# Altium schematic symbol library StandardDevices.SchLib: 31 symbols
Pins are listed as number, name and electrical type; pins without a type are passive.

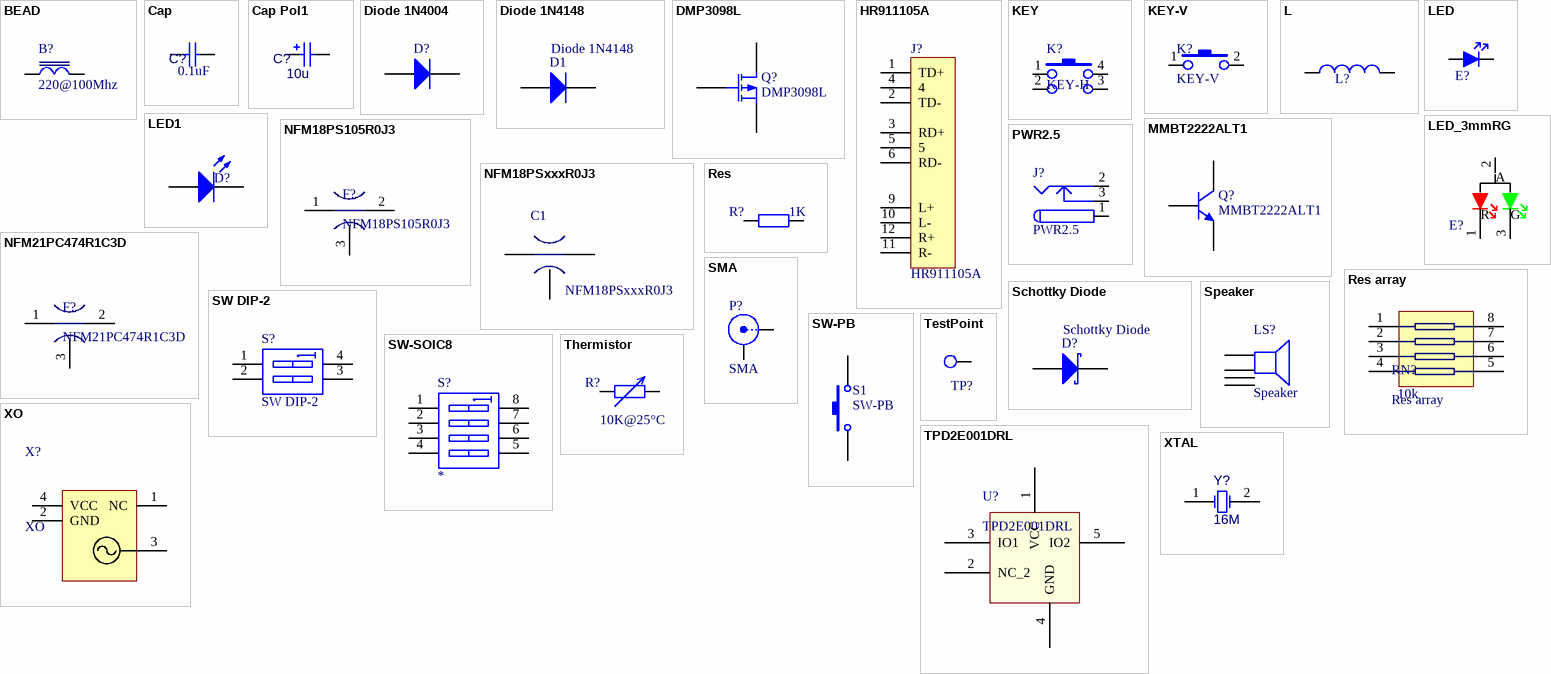
[diagram p0: symbols BEAD to XTAL]

## BEAD
designator B?, comment 220@100Mhz
footprint BEAD-0805
footprint BEAD-1206
footprint BEAD-RAD0.4
pins: 1, 2

## Cap
designator C?  value 0.1uF
Capacitor; Published: 8-Jun-2000; LatestRevisionDate: 17-Jul-2002; LatestRevisionNote: Re-released for DXP Platform.; Publisher: Altium Limited
footprint CAP-MLCC-0603
footprint CAP-MLCC-0805
footprint CAP-MLCC-0402-IPC High
footprint CAP-MLCC-0402
pins: 1, 2
2 alternate drawings of the same symbol

## Cap Pol1
designator C?  value 10u
Polarized Capacitor (Radial); Published: 8-Jun-2000; LatestRevisionDate: 17-Jul-2002; LatestRevisionNote: Re-released for DXP Platform.; Publisher: Altium Limited
footprint CAP-TAN-3216/CAPA
footprint CAP-TAN-3528/CAPB
footprint CAP-TAN-6032/CAPC
footprint CAP-TAN-7343/CAPD
pins: 1, 2
2 alternate drawings of the same symbol

## Diode 1N4004
designator D?  (value not drawn)
1 Amp General Purpose Rectifier; Revision 1: 11-Jul-2000: SIM Model Added.; Revision 2: 17-Jul-2002: Re-released for DXP Platform.; Package Information: Latest Revision: Aug-1999; Code - JEDEC: DO-204-AL; Published: 8-Jun-2000; Datasheet: Latest Revision: 1998; Package Reference: DO-41; Publisher: Altium Limited
footprint DIODE-0.4
footprint DO-124AB
footprint Diode-1206
pins: 1 A, 2 K

## Diode 1N4148
designator D1
High Conductance Fast Diode; Published: 8-Jun-2000; LatestRevisionDate: 17-Jul-2002; LatestRevisionNote: Re-released for DXP Platform.; DatasheetVersion: 1997; PackageReference: DO-35; Publisher: Altium Limited; Code_JEDEC: DO-204-AH; ComponentLink1Description: Manufacturer Link; ComponentLink1URL: http://www.fairchildsemi.com/; ComponentLink2Description: Datasheet; ComponentLink2URL: http://www.fairchildsemi.com/ds/1N%2F1N4148.pdf
footprint DIO7.1-3.9x1.9 (Diode, Axial; Body 3.8 x 1.9 mm (LxDia. max), Lead Dia. 0.53 mm (max))
simulation model 1N4148 (DIODE)
signal-integrity model 1N4148
footprint DO-35 (Diode, Axial; Body 3.8 x 1.9 mm (LxDia. max), Lead Dia. 0.53 mm (max))
footprint Diode-1206
pins: 1 A, 2 K

## DMP3098L
designator Q?
P-Channel Enhancement Mode Vertical DMOS FET; Published: 17-Dec-2003; DatasheetVersion: Jan-96; PackageVersion: 1996; PackageReference: SOT23; Publisher: Altium Limited; PackageDescription: SOT-23; 3 Leads; Body 3.1 x 2.5 mm, inc. leads (LxW max), Alternate Lead Configuration; ComponentLink1Description: Manufacturer Link; ComponentLink1URL: http://www.zetex.com/; ComponentLink2Description: Datasheet; ComponentLink2URL: www.zetex.com/3.0/pdf/ZVP3306F.pdf
footprint SOT23_L (SOT23, 3-Leads, Body 2.9x1.3mm, Pitch 0.95mm, Lead Span 2.3mm - Reverse Pinning, IPC High Density)
simulation model ZVP3306F (SUBCKT)
footprint SOT23_M (SOT23, 3-Leads, Body 2.9x1.3mm, Pitch 0.95mm, Lead Span 2.3mm - Reverse Pinning, IPC Low Density)
pins: 1 D, 2 S, 3 G

## HR911105A
designator J?
Hanrun
footprint HR911105A (HR911105A 带网络变压器及LED的一体化RJ45插座)
pins: 1 TD+, 2 TD-, 3 RD+, 4, 5, 6 RD-, 9 L+, 10 L-, 11 R-, 12 R+

## KEY
designator K?, comment KEY-H
footprint SW-PB1-BIG
footprint SW-PB1-SMALL
pins: 1, 2, 3, 4

## KEY-V
designator K?
footprint SW-PB3-VT
footprint SW-PB2-TS-3613
pins: 1, 2

## L
designator L?
Inductor; Published: 8-Jun-2000; Revision: July-2002: Re-released for DXP Platform.; Publisher: Altium Limited
signal-integrity model Inductor
footprint RES-0603
footprint RES-1206
footprint RES-0805
footprint RES-1210
footprint RES-1812
footprint RES-2010
footprint RES-2220
pins: 1, 2

## LED
designator E?  (value not drawn)
footprint LED-0805 (Footprint not found)
footprint LED-1206 (Footprint not found)
footprint LED-3MM/V
footprint LED-5MM/V
footprint LED-3MM/H
footprint LED-5MM/H
pins: A 1, K 2

## LED1
designator D?  (value not drawn)
Typical RED GaAs LED; Published: 8-Jun-2000; Revision: July-2002: Re-released for DXP Platform.; Publisher: Altium Limited
footprint LED-1 (Typical RED GaAs LED; 2 Leads)
pins: 1 A, 2 K

## LED_3mmRG
designator E?, comment Dual LED  (value not drawn)
3mm Dual LED in Red and Green
footprint LED_DUAL-3MM/CommonAnode (Common Anode 3mm LED in Red and Green)
pins: 1 Red, 2 A, 3 Green
text: R; G

## MMBT2222ALT1
designator Q?
General Purpose Transistor NPN Silicon; Published: 29-Sep-2000; LatestRevisionDate: 17-Jul-2002; LatestRevisionNote: Re-released for DXP Platform.; DatasheetVersion: 1996; PackageVersion: 1997; PackageReference: 318-08; Publisher: Altium Limited; PackageDescription: SOT-23; 3 Leads; Body 3.0 x 2.6 mm, inc. leads (LxW max); ComponentLink1Description: Manufacturer Link; ComponentLink1URL: http://www.onsemi.com/site/products/landing?taxonomyID=194; ComponentLink2Description: Datasheet; ComponentLink2URL: http://www.onsemi.com/pub/Collateral/MMBT2222LT1-D.PDF
footprint 318-08 (SOT-23; 3 Leads; Body 3.0 x 2.6 mm, inc. leads (LxW max))
simulation model MMBT2222ALT1 (NPN)
signal-integrity model MMBT2222ALT1
pins: 1 B, 2 E, 3 C

## NFM18PS105R0J3
designator F?
Murata 1.0uf Capacitor Type  Chip EMIFILr for 2A Current
footprint NFM18PS (NFM18ps package)
pins: 1 In, 2 OUT, 3 GND

## NFM18PSxxxR0J3
designator C1
Murata 1.0uf Capacitor Type  Chip EMIFILr for 2A Current; value: 470nf
footprint NFM18PS (NFM18ps package)
pins: 1 In, 2 OUT, 3 GND

## NFM21PC474R1C3D
designator F?
Murata Capacitor Type  Chip EMIFILr for Large Current; Manufactor: Murata
pins: 1 In, 2 OUT, 3 GND

## PWR2.5
designator J?
Low Voltage Power Supply Connector; Published: 17-Dec-2003; DatasheetDocument: 09-May-2002; Publisher: Altium Limited; ComponentLink1Description: Manufacturer Link; ComponentLink1URL: http://domino.kycon.com/internet/Products.html
footprint POWER_BIG; pin to pad 1A>1 1B>1 2A>2 2B>2 3A>3 3B>3
signal-integrity model Connector
pins: 1 (power), 1A (power), 1B (power), 2 (power), 2A (power), 2B (power), 3 (power), 3A (power), 3B (power)

## Res
designator R?  value 1K
Semiconductor Resistor; Published: 8-Jun-2000; Revision: July-2002: Re-released for DXP Platform.; Publisher: Altium Limited
signal-integrity model Res Semi
footprint RES-0603
footprint RES-0805
footprint RES-0402
footprint RES-1210
footprint RES-1812
footprint RES-0402-IPC High
pins: 1, 2
1 alternate drawing of the same symbol

## Res array
designator RN?  value 10k
Res4 array
footprint 742-CTS-RN-8PIN-SM
pins: 1 (power), 2 (power), 3 (power), 4 (power), 5 (power), 6 (power), 7 (power), 8 (power)

## Schottky Diode
designator D?
footprint DIO7.1-3.9x1.9 (Diode, Axial; Body 3.8 x 1.9 mm (LxDia. max), Lead Dia. 0.53 mm (max))
simulation model 1N4148 (DIODE)
signal-integrity model 1N4148
footprint DO-35 (Diode, Axial; Body 3.8 x 1.9 mm (LxDia. max), Lead Dia. 0.53 mm (max))
footprint Diode-1206
footprint PowerMITE (POWERMITE package for Diodes by ON Semi)
pins: 1 A, 2 K

## SMA
designator P?
SMA Straight Connector; LatestRevisionDate: 17-Jul-2002; LatestRevisionNote: Re-released for DXP Platform.; Publisher: Altium Limited
signal-integrity model Connector
footprint MCX5.08-H5 (Connector; RF Coaxial, MCX, Thru-Hole; 5 Position; Right Angle)
pins: 1 X, 2 Y

## Speaker
designator LS?
Loudspeaker; Published: 24-Mar-1999; LatestRevisionDate: 17-Jul-2002; LatestRevisionNote: Re-released for DXP Platform.; PackageReference: PIN2; Publisher: Altium Limited
footprint HDR1X4 (Connector; Header; 4 Position)
pins: 1, 2, 3, 4

## SW DIP-2
designator S?
DIP Switch, 2 Position, SPST; Published: 24-Mar-1999; LatestRevisionDate: 17-Jul-2002; LatestRevisionNote: Re-released for DXP Platform.; PackageReference: DIP-4; Publisher: Altium Limited
simulation model dpsw2 (Spice Subcircuit)
footprint SWITCH-1.27mmpitch-2channel (SOIC, 8-Leads, Body 6.3x4.5mm (max), Pitch 1.27mm, IPC Medium Density)
pins: 1 A1, 2 A2, 3 B2, 4 B1

## SW-PB
designator S1
Switch; Published: 24-Mar-1999; LatestRevisionDate: 17-Jul-2002; LatestRevisionNote: Re-released for DXP Platform.; PackageReference: SPST-2; Publisher: Altium Limited
footprint SPST-2 (Switch; 2 Leads)
pins: 1, 2

## SW-SOIC8
designator S?
DIP Switch
footprint SWITCH-1.27mmpitch (SOIC, 8-Leads, Body 6.3x4.5mm (max), Pitch 1.27mm, IPC Medium Density)
footprint SW-DIP8W-THT
pins: 1 A1, 2 A2, 3 A3, 4 A4, 5 B4, 6 B3, 7 B2, 8 B1

## TestPoint
designator TP?  (value not drawn)
fucntion test point
footprint TestPoint_1mmCircle (1mm circle test point)
footprint TestPoint_.7mmCircle (0.7mm circle test point)
pins: 1

## Thermistor
designator R?  value 10K@25°C  (hidden comment: Thermistor)
Semiconductor Resistor; Published: 8-Jun-2000; Revision: July-2002: Re-released for DXP Platform.; Publisher: Altium Limited
signal-integrity model Res Semi
footprint RES-0603
footprint RES-0805
footprint RES-0402
footprint RES-1210
footprint RES-1812
footprint AXIAL-0.12 (Axial Device, Thru-Hole; 2 Leads; 0.3 in Pin Spacing)
pins: 1, 2
1 alternate drawing of the same symbol

## TPD2E001DRL
designator U?
LOW-CAPACITANCE 2-CHANNEL ±15-kV ESD-PROTECTION ARRAY
footprint SOT23-5_N (SOT23, 5-Leads, Body 2.9x1.6mm, Pitch 0.95mm, Lead Span 2.8mm, IPC Medium Density)
footprint SOT23-5_L (SOT23, 5-Leads, Body 2.9x1.6mm, Pitch 0.95mm, Lead Span 2.8mm, IPC High Density)
footprint SOT23-5_M (SOT23, 5-Leads, Body 2.9x1.6mm, Pitch 0.95mm, Lead Span 2.8mm, IPC Low Density)
pins: 1 VCC, 2 NC_2, 3 IO1, 4 GND, 5 IO2

## XO
designator X?
footprint CRYXTAL7mm*5mm
footprint CRYXTAL3.2mm*5mm
pins: 1 NC, 2 GND, 3, 4 VCC

## XTAL
designator Y?, comment 16M
Crystal Oscillator; Published: 8-Jun-2000; LatestRevisionDate: 17-Jul-2002; LatestRevisionNote: Re-released for DXP Platform.; Publisher: Altium Limited
footprint RAD-0.2
footprint XTAL-5032 (5mm*3.2mm Crystal)
footprint XTAL-AT26
footprint XTAL-AT38 (32768)
footprint XTAL-HC-49/SMD (Quartz Crystal, SM; Body 13.4 (inc. leads) x 4.9 mm (LxW max))
footprint XTAL-HC-49S (12MHZ)
pins: 1 OSC1, 2 OSC2
2 alternate drawings of the same symbol